# Altium schematic symbol library Schlib1.SchLib: 1 symbol
Pins are listed as number, name and electrical type; pins without a type are passive.

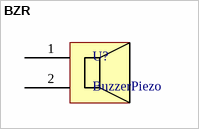
[diagram p0: symbol BZR]

## BZR
designator U?, comment BuzzerPiezo
Buzzer 12mm piezo; Manufacturer: TDK Corporation
footprint Buzzer (Buzzer d_12mm)
pins: 1, 2